# Altium footprint library MAX1555.PcbLib: 4 footprints
Each footprint in its own frame and in the unit in brackets; x right, y up, seen from the top. Pads: shape width x height; smd on the part's side, far side on the other; paste and mask are expansions set on the pad; w line width, h text height; cw(c..) or ccw(c..) is an arc to the next point about the centre after c.
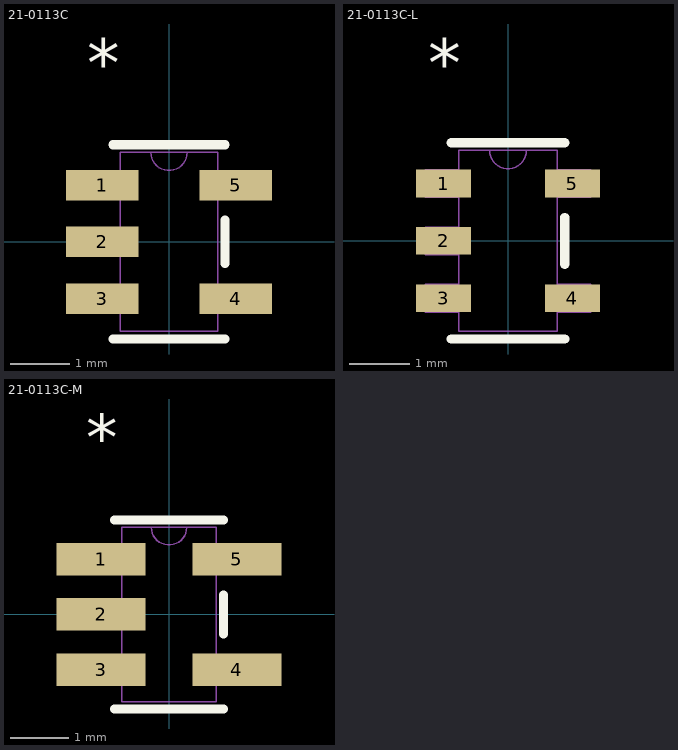
[diagram p0: the footprints below, top view; thin cyan lines are the x and y axes]

## 21-0113C [mil]
pads (5):
  rect 48x20 smd: 1(-44,37.4) 2(-44,0) 3(-44,-37.4) 4(44,-37.4) 5(44,37.4)
Top Overlay:
  lines w6: -37,-64 37,-64 ; -37,64 37,64 ; 37,-14.3 37,14.3
  text "*" at -54,102.4 h31.25
Mechanical 1:
  lines w1: -12,59 ccw(c0,59) 12,59 ; -54,-46.4 -32,-46.4 -32,-28.4 -54,-28.4 -54,-46.4 ; -54,-9 -32,-9 -32,9 -54,9 -54,-9 ; -54,28.4 -32,28.4 -32,46.4 -54,46.4 -54,28.4 ; -32,-59 -32,59 32,59 32,-59 -32,-59 ; 32,-46.4 54,-46.4 54,-28.4 32,-28.4 32,-46.4 ; 32,28.4 54,28.4 54,46.4 32,46.4 32,28.4
  text "*" at -22,64.4 h31.25

## 21-0113C-L [mil]
pads (5):
  rect 36x18 smd: 1(-42,37.4) 2(-42,0) 3(-42,-37.4) 4(42,-37.4) 5(42,37.4)
Top Overlay:
  lines w6: -37,-64 37,-64 ; -37,64 37,64 ; 37,-15.3 37,15.3
  text "*" at -52,100.4 h31.25
Mechanical 1:
  lines w1: -12,59 ccw(c0,59) 12,59 ; -54,-46.4 -32,-46.4 -32,-28.4 -54,-28.4 -54,-46.4 ; -54,-9 -32,-9 -32,9 -54,9 -54,-9 ; -54,28.4 -32,28.4 -32,46.4 -54,46.4 -54,28.4 ; -32,-59 -32,59 32,59 32,-59 -32,-59 ; 32,-46.4 54,-46.4 54,-28.4 32,-28.4 32,-46.4 ; 32,28.4 54,28.4 54,46.4 32,46.4 32,28.4
  text "*" at -22,62.4 h31.25

## 21-0113C-M [mil]
pads (5):
  rect 60x22 smd: 1(-46,37.4) 2(-46,0) 3(-46,-37.4) 4(46,-37.4) 5(46,37.4)
Top Overlay:
  lines w6: -37,-64 37,-64 ; -37,64 37,64 ; 37,-13.3 37,13.3
  text "*" at -56,104.4 h31.25
Mechanical 1:
  lines w1: -12,59 ccw(c0,59) 12,59 ; -54,-46.4 -32,-46.4 -32,-28.4 -54,-28.4 -54,-46.4 ; -54,-9 -32,-9 -32,9 -54,9 -54,-9 ; -54,28.4 -32,28.4 -32,46.4 -54,46.4 -54,28.4 ; -32,-59 -32,59 32,59 32,-59 -32,-59 ; 32,-46.4 54,-46.4 54,-28.4 32,-28.4 32,-46.4 ; 32,28.4 54,28.4 54,46.4 32,46.4 32,28.4
  text "*" at -22,66.4 h31.25

## PCBComponent_1 [mil]